# Altium schematic symbol library sch_leds.SchLib: 1 symbol
Pins are listed as number, name and electrical type; pins without a type are passive.

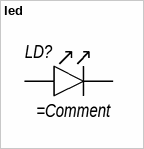
[diagram p0: symbol led]

## led
designator LD?
pins: 0 (power), 1 (power)